# Altium footprint library PMV20XNEAR.PcbLib: 1 footprints
Each footprint in its own frame and in the unit in brackets; x right, y up, seen from the top. Pads: shape width x height; smd on the part's side, far side on the other; paste and mask are expansions set on the pad; w line width, h text height; cw(c..) or ccw(c..) is an arc to the next point about the centre after c.
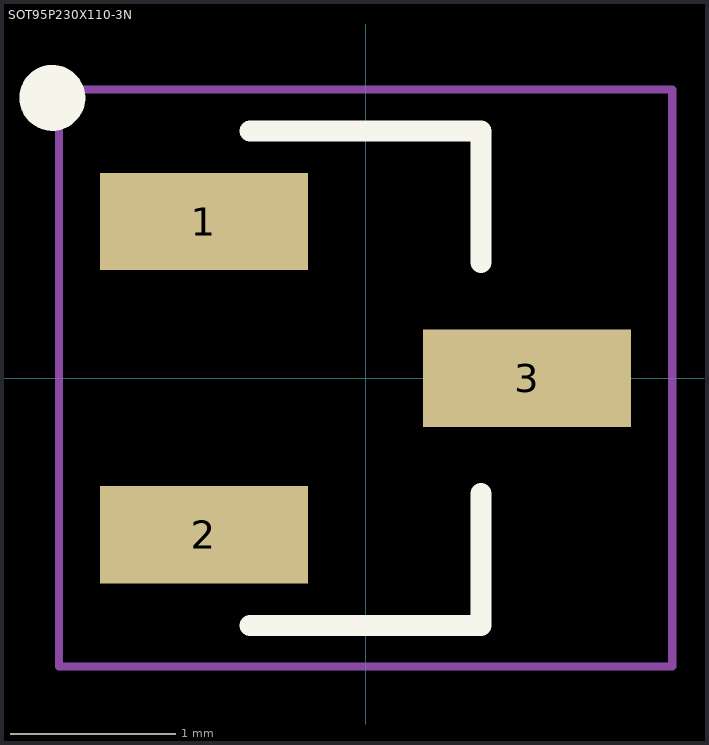
[diagram p0: the footprint, top view; thin cyan lines are the x and y axes]

## SOT95P230X110-3N [mm]
pads (3):
  rect 1.26x0.59 smd: 1(-0.98,0.95) 2(-0.98,-0.95) 3(0.98,0)
Top Overlay:
  circle w0.2: c-1.9,1.7 r0.1
  lines w0.127: -0.7,-1.5 0.7,-1.5 0.7,-0.7 ; -0.7,1.5 0.7,1.5 0.7,0.7
Mechanical 16:
  lines w0.05: -1.86,-1.75 1.86,-1.75 1.86,1.75 -1.86,1.75 -1.86,-1.75
3D body: height 1.1, standoff 0, extent -0.7,-1.5 0.7,1.5